# EAGLE library part 05G_ETHERNET_SWITCH (library ali_modules)
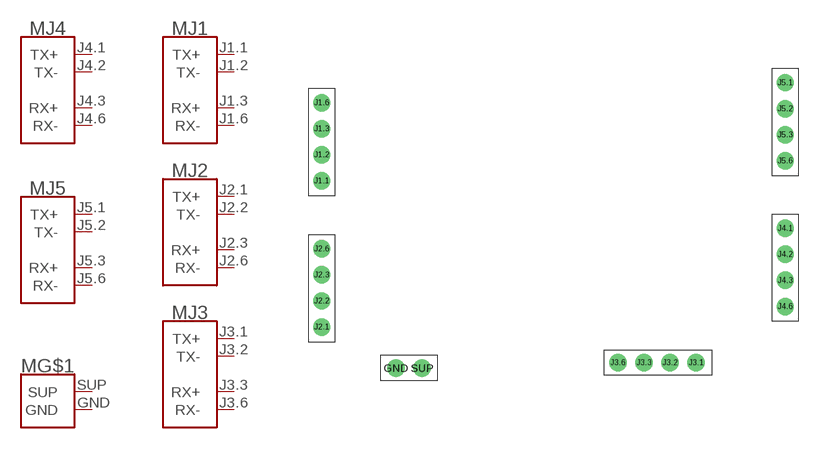
[diagram p4: symbol with the pads of 05G_ETH_SWITCH; footprint 05G_ETH_SWITCH]

Designator prefix M; gates J1=10/100_ETH_PORT J2=10/100_ETH_PORT J3=10/100_ETH_PORT J4=10/100_ETH_PORT J5=10/100_ETH_PORT G$1=SUPPLY

## 05G_ETHERNET_SWITCH  [05G_ETH_SWITCH]
GND  G$1:GND
J1.1  J1:TX+
J1.2  J1:TX-
J1.3  J1:RX+
J1.6  J1:RX-
J2.1  J2:TX+
J2.2  J2:TX-
J2.3  J2:RX+
J2.6  J2:RX-
J3.1  J3:TX+
J3.2  J3:TX-
J3.3  J3:RX+
J3.6  J3:RX-
J4.1  J4:TX+
J4.2  J4:TX-
J4.3  J4:RX+
J4.6  J4:RX-
J5.1  J5:TX+
J5.2  J5:TX-
J5.3  J5:RX+
J5.6  J5:RX-
SUP  G$1:SUP

## Footprint 05G_ETH_SWITCH (pad centres in mm)
drill 1 pad 1.7: GND -15.27,-18.8; J1.1 -22.5,-0.52; J1.2 -22.5,2.02; J1.3 -22.5,4.56; J1.6 -22.5,7.1; J2.1 -22.5,-14.77; J2.2 -22.5,-12.23; J2.3 -22.5,-9.69; J2.6 -22.5,-7.15; J3.1 13.97,-18.25; J3.2 11.43,-18.25; J3.3 8.89,-18.25; J3.6 6.35,-18.25; J4.1 22.65,-5.15; J4.2 22.65,-7.69; J4.3 22.65,-10.23; J4.6 22.65,-12.77; J5.1 22.65,9.05; J5.2 22.65,6.51; J5.3 22.65,3.97; J5.6 22.65,1.43; SUP -12.73,-18.8